# EAGLE library part ESD224DQAR (library ESD224DQAR)
4-Channel Low Clamping ESD Protection Device for HDMI Interface Source: Datasheet <http://www.ti.com/lit/gpn/esd224>
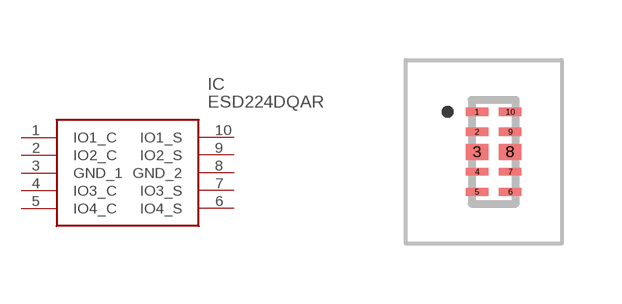
[diagram p0: symbol with the pads of ESD224DQAR; footprint ESD224DQAR]

Designator prefix IC

## ESD224DQAR (Arrow_Part_Number: ESD224DQAR; Arrow_Price-Stock: https://www.arrow.com/en/products/esd224dqar/texas-instruments?region=nac; Description: 4-Channel Low Clamping ESD Protection Device for HDMI Interface; Height: 0.55mm; Manufacturer_Name: Texas Instruments; Manufacturer_Part_Number: ESD224DQAR; Mouser_Part_Number: 595-ESD224DQAR; Mouser_Price-Stock: https://www.mouser.co.uk/ProductDetail/Texas-Instruments/ESD224DQAR?qs=F5EMLAvA7IDFPTOz5JtaBw%3D%3D)  [ESD224DQAR]
1  IO1_C
2  IO2_C
3  GND_1
4  IO3_C
5  IO4_C
6  IO4_S
7  IO3_S
8  GND_2
9  IO2_S
10  IO1_S

## Footprint ESD224DQAR (pad centres in mm)
ESD224DQAR-1
smd 0.565 x 0.2: 1 -0.417,1; 2 -0.417,0.5; 4 -0.417,-0.5; 5 -0.417,-1; 6 0.417,-1; 7 0.417,-0.5; 9 0.417,0.5; 10 0.417,1
smd 0.565 x 0.4: 3 -0.417,0; 8 0.417,0